# EAGLE library part JST-PH7 (library jst-ph-xh)
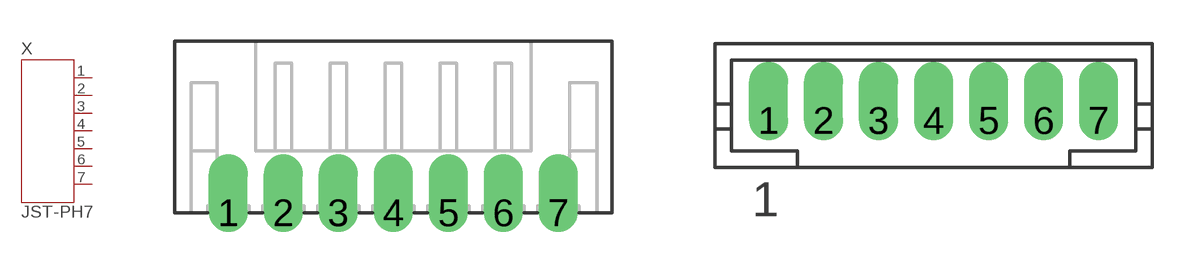
[diagram p1: symbol with the pads of JST-PH7S; footprints JST-PH7S, JST-PH7]

Designator prefix X

## JST-PH7S  [JST-PH7S]
1  1  pas
2  2  pas
3  3  pas
4  4  pas
5  5  pas
6  6  pas
7  7  pas

## JST-PH7  [JST-PH7]
Pads as for JST-PH7S

## Footprint JST-PH7S (pad centres in mm)
drill 0.8 pad 1.422 offset: 1 -6,0; 2 -4,0; 3 -2,0; 4 0,0; 5 2,0; 6 4,0; 7 6,0

## Footprint JST-PH7 (pad centres in mm)
drill 0.813 pad 1.422 offset: 1 -6,0; 2 -4,0; 3 -2,0; 4 0,0; 5 2,0; 6 4,0; 7 6,0